# EAGLE library part PIC10F322 (library act-global-nolan)
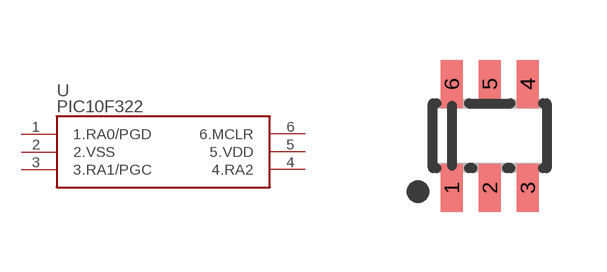
[diagram p25: symbol with the pads of SOT23-6; footprint SOT23-6]

Designator prefix -

## PIC10F322  [SOT23-6]
1  1.RA0/PGD
2  2.VSS
3  3.RA1/PGC
4  4.RA2
5  5.VDD
6  6.MCLR

## Footprint SOT23-6 (pad centres in mm)
smd 0.55 x 1.2: 1 -0.95,-1.3; 2 0,-1.3; 3 0.95,-1.3; 4 0.95,1.3; 5 0,1.3; 6 -0.95,1.3